# Altium footprint library Part Footprints.PcbLib: 26 footprints (part 2 of 2)
Each footprint in its own frame and in the unit in brackets; x right, y up, seen from the top. Pads: shape width x height; smd on the part's side, far side on the other; paste and mask are expansions set on the pad; w line width, h text height; cw(c..) or ccw(c..) is an arc to the next point about the centre after c.
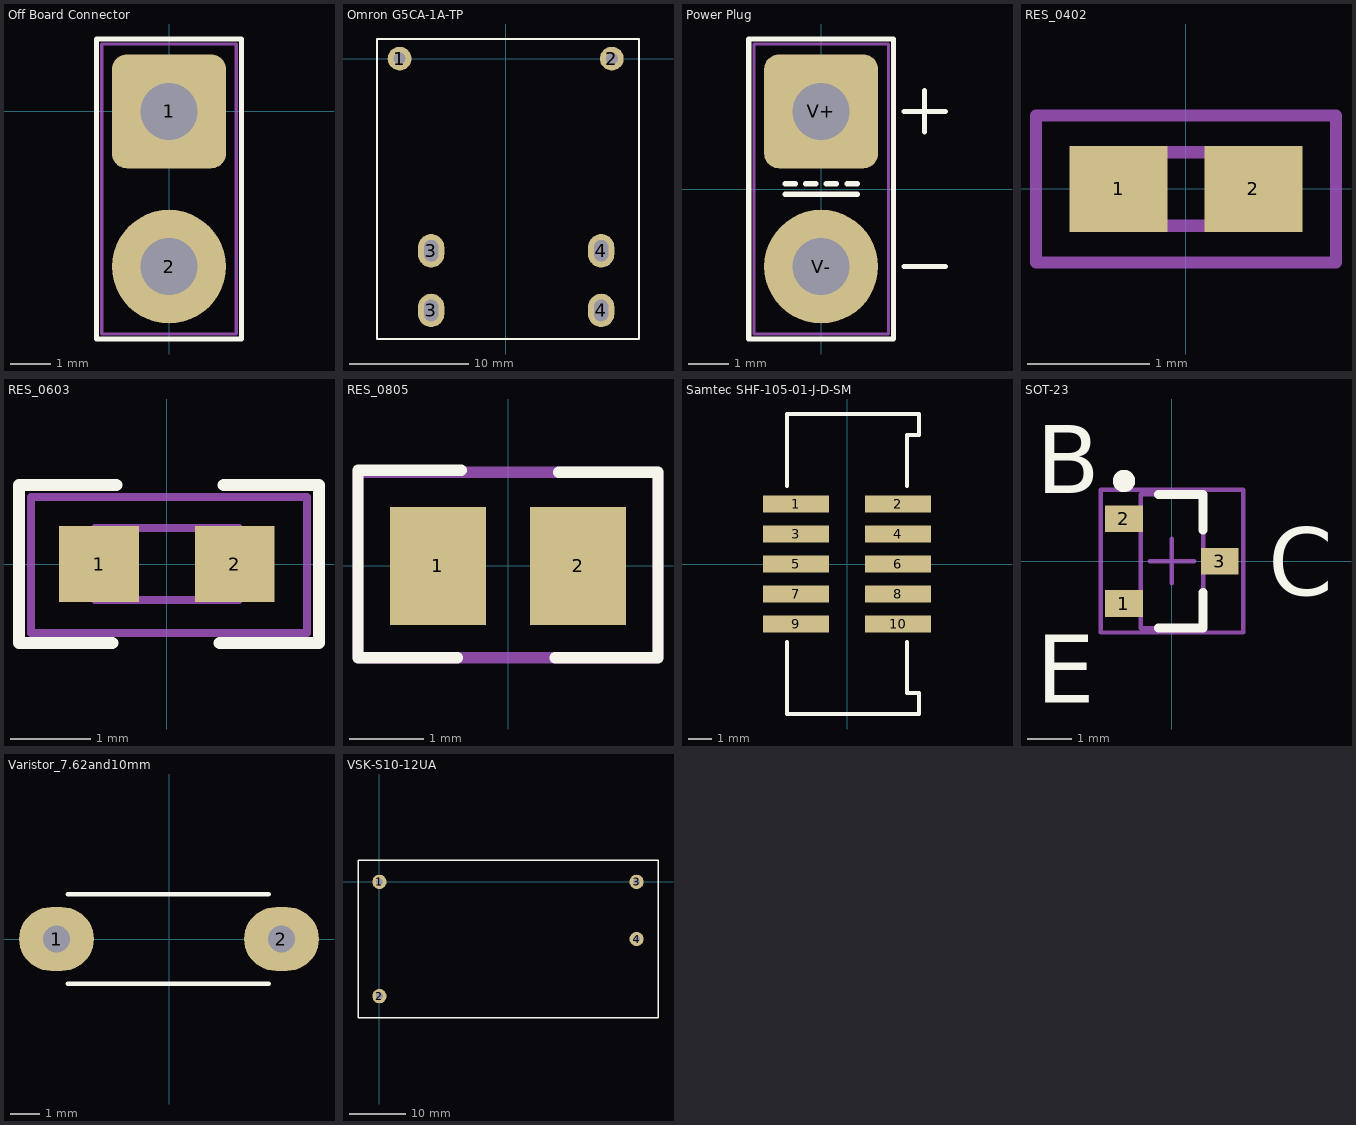
[diagram p1: the footprints below, top view; thin cyan lines are the x and y axes]

## Off Board Connector [mil] "2 Position Off Board Connector"
pads (2):
  rrect25% 110x110 hole 55: 1(0,0)
  round 110 hole 55: 2(0,-150)
Top Overlay:
  lines w5: -70,-220 -70,70 70,70 70,-220 -70,-220
Mechanical 13:
  lines w3: -65,-215 -65,65 65,65 65,-215 -65,-215

## Omron G5CA-1A-TP [mm] "Omrom G5CA-1A-TP PCB Relay"
height 11
pads (6):
  round 2 hole 1: 1(-8.89,0) 2(8.89,0)
  oval 2.2x2.8 hole 1.2 slot 1.8 at 90 deg: 3(-6.25,-21.1) 3(-6.25,-16.1) 4(8,-21.1) 4(8,-16.1)
Top Overlay:
  lines w0.152: -10.795,-23.495 -10.795,1.651 11.176,1.651 11.176,-23.495 -10.795,-23.495
3D body: height 0.3, standoff -3, extent -6.746,-21.599 -5.75,-20.601
3D body: height 0.3, standoff -3, extent -6.746,-16.599 -5.75,-15.601
3D body: height 0.3, standoff -3, extent 7.504,-21.599 8.5,-20.601
3D body: height 0.3, standoff -3, extent 7.513,-16.628 8.509,-15.63
3D body: height 0.3, standoff -3, extent 8.402,-0.381 9.398,0.617
3D body: height 0.3, standoff -3, extent -9.386,-0.499 -8.39,0.499
3D body: height 13.3, standoff 7, extent 7.747,-20.955 8.255,-15.875
3D body: height 13.3, standoff 7, extent -6.477,-20.955 -5.969,-15.875
3D body: height 4.9, standoff 0.3, extent -10.795,-23.622 11.176,1.524
3D body: height 11, standoff 0.3, extent -10.795,-12.7 11.176,1.651
3D body: height 7, standoff 4.9, extent -6.477,-22.733 -5.969,-14.351
3D body: height 7, standoff 4.9, extent 7.747,-22.733 8.255,-14.351

## Power Plug [mil]
pads (2):
  rrect25% 110x110 hole 55: V+(0,75)
  round 110 hole 55: V-(0,-75)
Top Overlay:
  lines w5: -35,-5 35,-5 ; -35,5 -25,5 ; -15,5 -5,5 ; 5,5 15,5 ; 25,5 35,5 ; 80,-75 120,-75 ; 80,75 120,75 ; 100,55 100,95 ; -70,-145 -70,145 70,145 70,-145 -70,-145
Mechanical 13:
  lines w3: -65,-140 65,-140 65,140 -65,140 -65,-140

## RES_0402 [mm] "Chip Resistor, 2-Leads, Body 1.0x0.5mm, IPC Medium Density"
height 0.35
pads (2):
  rect 0.8x0.7 smd: 1(-0.55,0) 2(0.55,0)
Mechanical 13:
  lines w0.1: -0.55,-0.3 -0.55,0.3 0.55,0.3 0.55,-0.3 -0.55,-0.3
Mechanical 15:
  lines w0.1: -1.225,-0.6 -1.225,0.6 1.225,0.6 1.225,-0.6 -1.225,-0.6
3D body: height 0.35, standoff 0, extent -0.55,-0.3 0.55,0.3

## RES_0603 [mm] "Resistor, 0603"
height 0.55
pads (2):
  rect 1x0.95 smd: 1(-0.85,0) 2(0.85,0)
Top Overlay:
  lines w0.152: -0.686,-0.991 -1.854,-0.991 -1.854,0.991 -0.635,0.991 ; 0.66,-0.991 1.905,-0.991 1.905,0.991 0.711,0.991
Mechanical 13:
  lines w0.1: -0.9,-0.45 -0.9,0.45 0.9,0.45 0.9,-0.45 -0.9,-0.45
Mechanical 15:
  lines w0.1: -1.702,-0.864 -1.702,0.838 1.753,0.838 1.753,-0.864 -1.702,-0.864
3D body: height 0.55, standoff 0, extent -0.9,-0.45 0.9,0.45

## RES_0805 [mm] "Resistor -  2 x 1.4 mm (LxDia)"
height 1.45
pads (2):
  rect 1.3x1.6 smd: 1(-0.95,0) 2(0.95,0)
Top Overlay:
  lines w0.152: -0.686,-1.245 -2.032,-1.245 -2.032,1.295 -0.635,1.295 ; 0.635,-1.245 2.032,-1.245 2.032,1.27 0.686,1.27
Mechanical 15:
  lines w0.152: -2.032,-1.245 2.032,-1.245 2.032,1.27 -2.032,1.27 -2.032,-1.245
3D body: height 0.76, standoff 0, extent -1.397,-0.787 1.397,0.787

## Samtec SHF-105-01-J-D-SM [mil] "Samtec Gadgeteer Connector"
pads (10):
  rect 110x29 smd: 1(-85,100) 2(85,100) 3(-85,50) 4(85,50) 5(-85,0) 6(85,0) 7(-85,-50) 8(85,-50) 9(-85,-100) 10(85,-100)
Top Overlay:
  lines w6: -100,-130 -100,-250 120,-250 120,-215 100,-215 100,-130 ; -100,130 -100,250 120,250 120,215 100,215 100,130
3D body: height -15, standoff -230, extent -120.16,-250 120.16,250

## SOT-23 [mm] "SOT23, 3-Leads, Body 2.9x1.3mm, Pitch 0.95mm, Lead Span 2.5mm, IPC High Density"
height 1.1
pads (3):
  rect 0.85x0.6 smd: 1(-1.075,-0.95) 2(-1.075,0.95) 3(1.075,0)
Top Overlay:
  circle w0.25: c-1.075,1.8 r0.125
  lines w0.2: -0.3,-1.5 0.7,-1.5 0.7,-0.7 ; -0.3,1.5 0.7,1.5 0.7,0.7
  text "B" at -3.048,1.524 h1.52
  text "E" at -3.048,-3.175 h1.52
  text "C" at 2.159,-0.762 h1.52
Mechanical 13:
  lines w0.1: -0.7,-1.5 0.7,-1.5 0.7,1.5 -0.7,1.5 -0.7,-1.5
Mechanical 15:
  lines w0.1: -0.5,0 0.5,0 ; 0,-0.5 0,0.5 ; -1.6,-1.6 1.6,-1.6 1.6,1.6 -1.6,1.6 -1.6,-1.6
3D body: height 1.1, standoff 0, extent -0.7,-1.5 0.7,1.5

## Varistor_7.62and10mm [mil] "MOV Thru-Hole, Radial; Body 6.8 x 3 mm (WxT) Pin Spacing 7.62 mm (typ)"
height 236.22
pads (2):
  oval 100x85 hole 36: 1(-150,0) 2(150,0)
Top Overlay:
  lines w6: -135,-60 132.72,-60 ; -135,60 132.72,60
3D body: height 472.44, standoff -98.43, extent -216.47,-69.98 216.44,68.36

## VSK-S10-12UA [mm] "CUI AC-DC Power Supply"
height 18.999
pads (4):
  round 2.54 hole 1.27: 1(0,0) 2(0,-20.32) 3(45.72,0) 4(45.72,-10.16)
Top Overlay:
  lines w0.254: -3.81,-24.13 -3.81,3.81 49.53,3.81 49.53,-24.13 -3.81,-24.13
3D body: height 0, standoff -6.1, extent 45.171,-0.533 46.238,0.533
3D body: height 0, standoff -6.1, extent 45.044,-10.693 46.111,-9.627
3D body: height 0, standoff -6.1, extent -0.549,-20.853 0.518,-19.787
3D body: height 0, standoff -6.1, extent -0.549,-0.533 0.518,0.533
3D body: height 19, standoff 0, extent -3.937,-24.257 49.657,3.937